# Altium integrated library TE Card Edge Connectors and Sockets.IntLib: 2 symbols
Pins are listed as number, name and electrical type; pins without a type are passive.

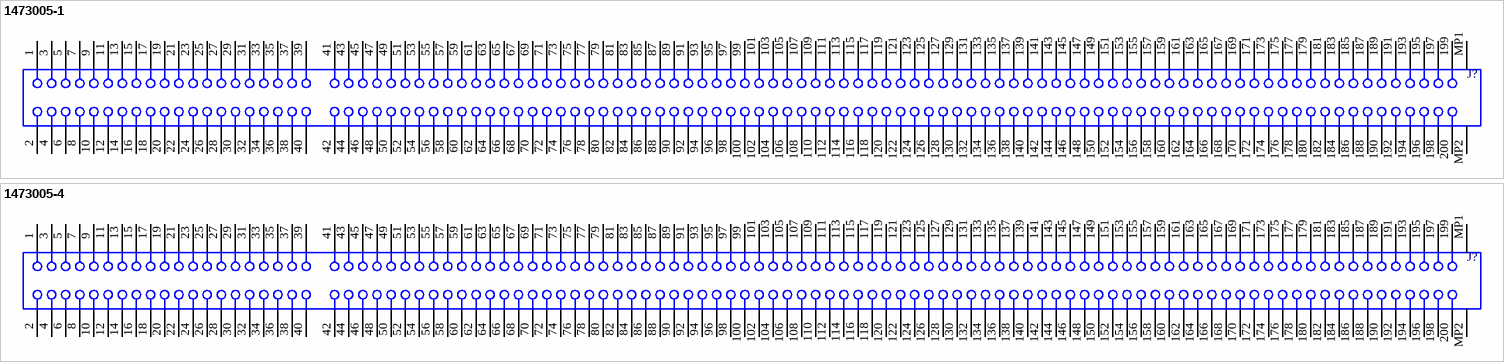
[diagram p0: symbols 1473005-1 to 1473005-4]

## 1473005-1
designator J?
DDR1 SODIMM Socket, Pitch 0.6 mm, 2 x 100 Position, Height 5.2 mm; Number of Contacts: 200; Product Length: 71.5mm; Gender: SKT; Product Depth: 26mm; Insulation Resistance: 250MOhm; Maximum Voltage Rating: 2.5V; Body Orientation: Right Angle; Pitch: 0.6mm; Product Height: 5.2mm; PackageReference: SMD; PackageDescription: DDR1 SODIMM Socket, Pitch 0.6 mm, 2 x 100 Position, Height 5.2 mm; Supplier 1: Digi-Key; Supplier Part Number 1: A99605-ND; Termination Method: Solder; Minimum Operating Temperature: -55C; Insulation Material: Thermoplastic; Packaging: Tray; Mounting: Surface Mount; Family: 1473005; Housing Material: Thermoplastic; Maximum Operating Temperature: 85C; Contact Plating: Gold Over Nickel; Type: SO DIMM Socket; Contact Material: Copper Alloy; Product Type: Connector Socket; Number of Rows: 2; ComponentLink1Description: Manufacturer URL; ComponentLink1URL: http://www.te.com; ComponentLink2Description: Datasheet; ComponentLink2URL: http://www.te.com/usa-en/plp/ddr1-and-ddr2-sodimm/Znq3.html
footprint TECO-1473005-1_V (SMD, Pitch 0.6mm, 2x100 Position, Height 5.2mm)
pins: 1, 2, 3, 4, 5, 6, 7, 8, 9, 10, 11, 12, 13, 14, 15, 16, 17, 18, 19, 20, 21, 22, 23, 24, 25, 26, 27, 28, 29, 30, 31, 32, 33, 34, 35, 36, 37, 38, 39, 40, 41, 42, 43, 44, 45, 46, 47, 48, 49, 50, 51, 52, 53, 54, 55, 56, 57, 58, 59, 60, 61, 62, 63, 64, 65, 66, 67, 68, 69, 70, 71, 72, 73, 74, 75, 76, 77, 78, 79, 80, 81, 82, 83, 84, 85, 86, 87, 88, 89, 90, 91, 92, 93, 94, 95, 96, 97, 98, 99, 100, 101, 102, 103, 104, 105, 106, 107, 108, 109, 110, 111, 112, 113, 114, 115, 116, 117, 118, 119, 120, 121, 122, 123, 124, 125, 126, 127, 128, 129, 130, 131, 132, 133, 134, 135, 136, 137, 138, 139, 140, 141, 142, 143, 144, 145, 146, 147, 148, 149, 150, 151, 152, 153, 154, 155, 156, 157, 158, 159, 160, 161, 162, 163, 164, 165, 166, 167, 168, 169, 170, 171, 172, 173, 174, 175, 176, 177, 178, 179, 180, 181, 182, 183, 184, 185, 186, 187, 188, 189, 190, 191, 192, 193, 194, 195, 196, 197, 198, 199, 200, MP1, MP2

## 1473005-4
designator J?
Right Angle DDR2 DIMM Socket, Pitch 0.6 mm, 2 x 100 Position, Height 5.2 mm, -55 to 85 degC, RoHS, Tray; Memory Type: DDR 2 SDRAM; 3D Model: 1473005-4.pdf; Minimum Quantity: SODIMM; Unit PriceUSD: AMP; Number of Positions: 200; Other Names: 1473005-4-ND / A114851; DatasheetVersion: Rev. J3; PackageReference: SMD; PackageDescription: Socket, Pitch 0.6 mm, 2 x 100 Position, Height 5.2 mm; Supplier 1: Digi-Key; Supplier Part Number 1: A114851-ND; Quantity Available: Tray; Packaging: Tray; Mounting Feature: Standard; Standard Package: 20; RoHS Information: 1473005-4 Statement of Compliance / RoHS 2 Statement; Family: Memory Connectors - Inline Module Sockets; Features: Board Guide, Latches; Contact Finish Thickness: Flash; Series: AMP; Connector Style: SODIMM; Contact Finish: Gold; Category: Connectors, Interconnects; Mounting Type: Surface Mount, Right Angle; ComponentLink1Description: Manufacturer URL; ComponentLink1URL: http://www.te.com; ComponentLink2Description: Datasheet; ComponentLink2URL: http://www.te.com/commerce/DocumentDelivery/DDEController?Action=showdoc&DocId=Customer+Drawing%7F1473005%7FJ3%7Fpdf%7FEnglish%7FENG_CD_1473005_J3.pdf%7F1473005-4
footprint TECO-1473005-4_V (Socket, 200-Leads, Body Length 71.5mm, Pitch 0.6mm)
pins: 1, 2, 3, 4, 5, 6, 7, 8, 9, 10, 11, 12, 13, 14, 15, 16, 17, 18, 19, 20, 21, 22, 23, 24, 25, 26, 27, 28, 29, 30, 31, 32, 33, 34, 35, 36, 37, 38, 39, 40, 41, 42, 43, 44, 45, 46, 47, 48, 49, 50, 51, 52, 53, 54, 55, 56, 57, 58, 59, 60, 61, 62, 63, 64, 65, 66, 67, 68, 69, 70, 71, 72, 73, 74, 75, 76, 77, 78, 79, 80, 81, 82, 83, 84, 85, 86, 87, 88, 89, 90, 91, 92, 93, 94, 95, 96, 97, 98, 99, 100, 101, 102, 103, 104, 105, 106, 107, 108, 109, 110, 111, 112, 113, 114, 115, 116, 117, 118, 119, 120, 121, 122, 123, 124, 125, 126, 127, 128, 129, 130, 131, 132, 133, 134, 135, 136, 137, 138, 139, 140, 141, 142, 143, 144, 145, 146, 147, 148, 149, 150, 151, 152, 153, 154, 155, 156, 157, 158, 159, 160, 161, 162, 163, 164, 165, 166, 167, 168, 169, 170, 171, 172, 173, 174, 175, 176, 177, 178, 179, 180, 181, 182, 183, 184, 185, 186, 187, 188, 189, 190, 191, 192, 193, 194, 195, 196, 197, 198, 199, 200, MP1, MP2